# Altium footprint library MOLEX_768290102.PcbLib: 1 footprints
Each footprint in its own frame and in the unit in brackets; x right, y up, seen from the top. Pads: shape width x height; smd on the part's side, far side on the other; paste and mask are expansions set on the pad; w line width, h text height; cw(c..) or ccw(c..) is an arc to the next point about the centre after c.
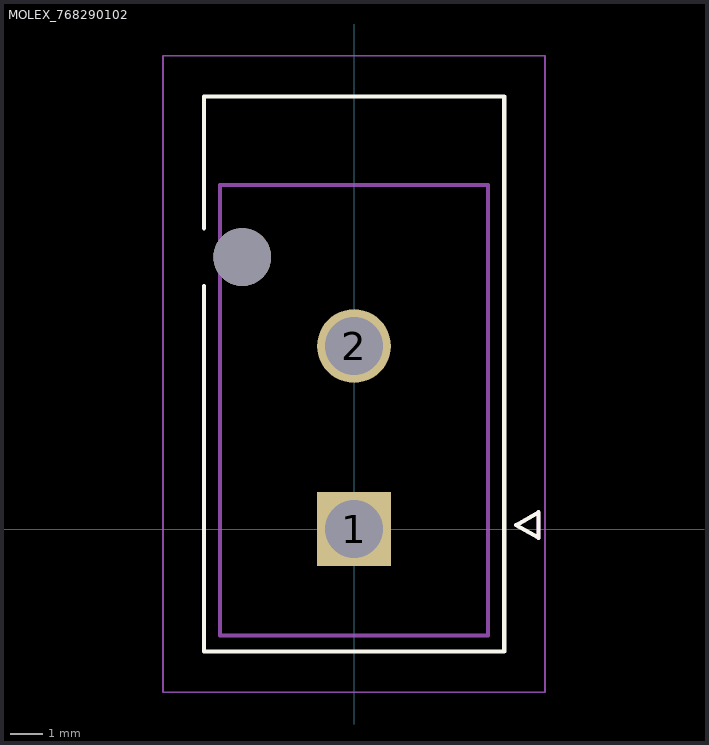
[diagram p0: the footprint, top view; thin cyan lines are the x and y axes]

## MOLEX_768290102 [mm]
height 14.8
pads (3):
  rect 2.3x2.3 / inner round 2.3 / far side rect 2.3x2.3 hole 1.8 mask+0.076: 1(0,0)
  round 2.3 hole 1.8 mask+0.076: 2(0,5.7)
  round 1.8 hole 1.8 unplated mask+0.076: ""(-3.48,8.47)
Top Overlay:
  lines w0.127: -4.67,7.57 -4.67,-3.81 4.68,-3.81 4.68,13.47 -4.67,13.47 -4.67,9.37 ; 5.05,0.125 5.75,0.525 5.75,-0.275 5.05,0.125
Mechanical 13:
  lines w0.127: -4.175,-3.31 -4.175,10.72 4.175,10.72 4.175,-3.31 -4.175,-3.31 ; 5.05,0.125 5.75,-0.275 5.75,0.525 5.05,0.125
  text "NPTH D1.8 +/- 0.05" at -5.8,-10.485 h0.5
  text "PTH D1.8 +/- 0.05" at -5.8,-9.215 h0.5
Mechanical 15:
  lines w0.05: -5.95,-5.08 -5.95,14.74 5.95,14.74 5.95,-5.08 -5.95,-5.08
3D body "0768290102.stp": height 14.81, standoff -3.77, extent -4.031,-4.985 4.318,9.049